# EAGLE library part BSO033N03MS (library chlk_bot)
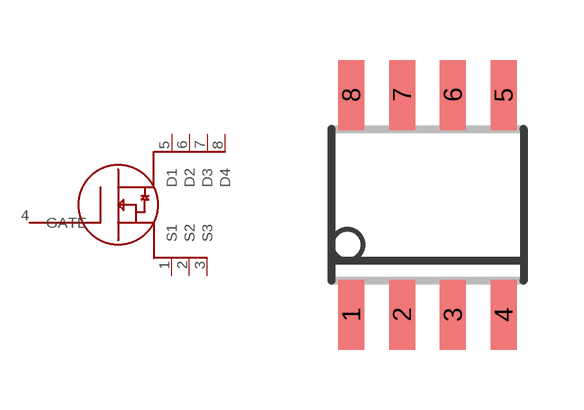
[diagram p1: symbol with the pads of SOIC8; footprint SOIC8]

Designator prefix -

## BSO033N03MS  [SOIC8]
1  S1
2  S2
3  S3
4  GATE
5  D1
6  D2
7  D3
8  D4

## Footprint SOIC8 (pad centres in mm)
SOIC-8 CASE 751-07 Source: http://www.onsemi.com/pub/Collateral/MC34164-D.PDF D (R-PDSO-G8)PLATIC SMALL-OUTLINE PACKAGE Source: http://focus.ti.com/lit/ds/symlink/tlc27l2.pdf
smd 0.65 x 1.75: 1 -1.905,-2.75; 2 -0.635,-2.75; 3 0.635,-2.75; 4 1.905,-2.75; 5 1.905,2.75; 6 0.635,2.75; 7 -0.635,2.75; 8 -1.905,2.75